# Altium schematic symbol library Schlib1.SchLib: 2 symbols
Pins are listed as number, name and electrical type; pins without a type are passive.

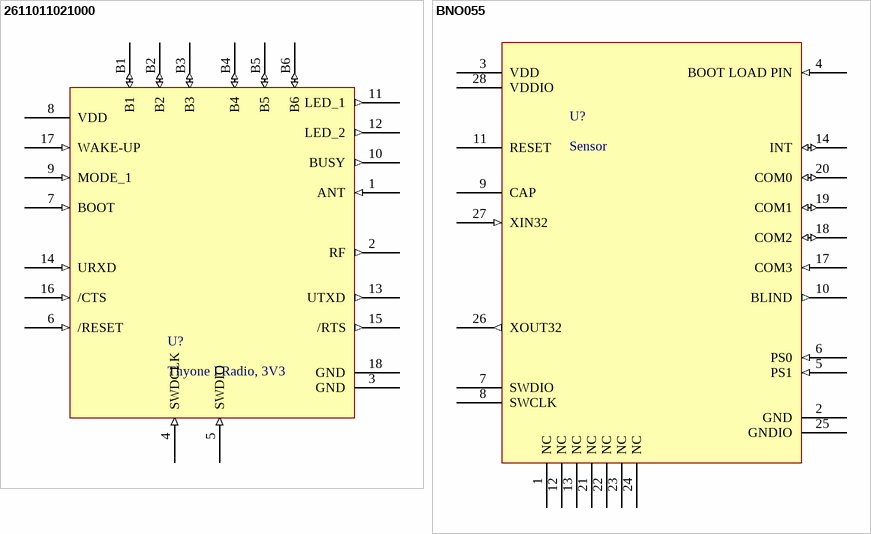
[diagram p0: symbols 2611011021000 to BNO055]

## 2611011021000
designator U?, comment Thyone I Radio, 3V3
footprint WE-FP-4+
pins: 1 ANT (in), 2 RF (out), 3 GND, 4 SWDCLK (in), 5 SWDIO (in), 6 /RESET (in), 7 BOOT (in), 8 VDD, 9 MODE_1 (in), 10 BUSY (out), 11 LED_1 (out), 12 LED_2 (out), 13 UTXD (out), 14 URXD (in), 15 /RTS (out), 16 /CTS (in), 17 WAKE-UP (in), 18 GND, B1 (io), B2 (io), B3 (io), B4 (io), B5 (io), B6 (io)

## BNO055
designator U?, comment Sensor
ComponentLink1Description: New link
footprint LGA-28
pins: 1 NC, 2 GND, 3 VDD, 4 BOOT LOAD PIN (in), 5 PS1 (in), 6 PS0 (in), 7 SWDIO, 8 SWCLK, 9 CAP, 10 BLIND (out), 11 RESET, 12 NC, 13 NC, 14 INT (io), 17 COM3 (in), 18 COM2 (io), 19 COM1 (io), 20 COM0 (io), 21 NC, 22 NC, 23 NC, 24 NC, 25 GNDIO, 26 XOUT32 (out), 27 XIN32 (in), 28 VDDIO